# Altium footprint library Aristuino_pins_2.PcbLib: 1 footprints
Each footprint in its own frame and in the unit in brackets; x right, y up, seen from the top. Pads: shape width x height; smd on the part's side, far side on the other; paste and mask are expansions set on the pad; w line width, h text height; cw(c..) or ccw(c..) is an arc to the next point about the centre after c.
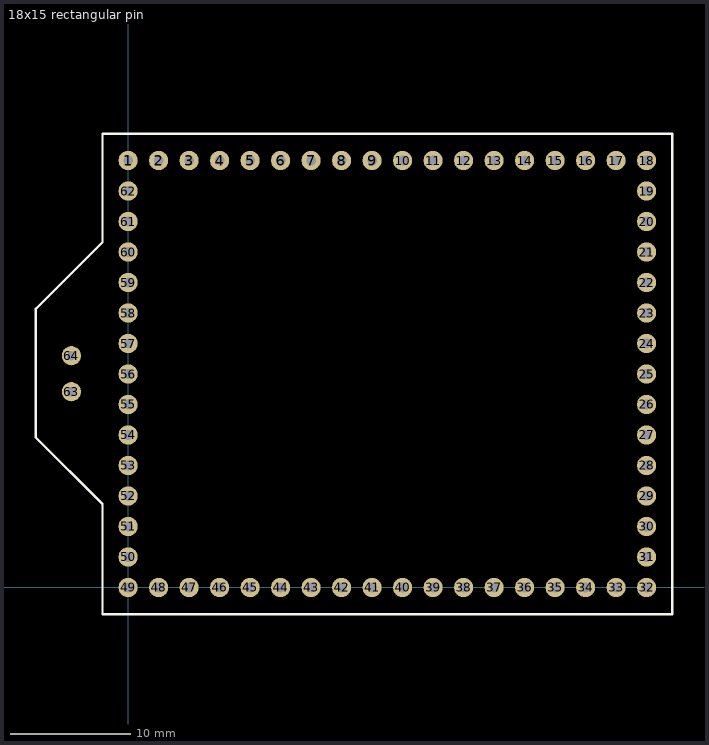
[diagram p0: the footprint, top view; thin cyan lines are the x and y axes]

## 18x15 rectangular pin [mm]
pads (64):
  round 1.6 hole 0.8: 1(0,35.56) 2(2.54,35.56) 3(5.08,35.56) 4(7.62,35.56) 5(10.16,35.56) 6(12.7,35.56) 7(15.24,35.56) 8(17.78,35.56) 9(20.32,35.56) 10(22.86,35.56) 11(25.4,35.56) 12(27.94,35.56) 13(30.48,35.56) 14(33.02,35.56) 15(35.56,35.56) 16(38.1,35.56) 17(40.64,35.56) 18(43.18,35.56) 19(43.18,33.02) 20(43.18,30.48) 21(43.18,27.94) 22(43.18,25.4) 23(43.18,22.86) 24(43.18,20.32) 25(43.18,17.78) 26(43.18,15.24) 27(43.18,12.7) 28(43.18,10.16) 29(43.18,7.62) 30(43.18,5.08) 31(43.18,2.54) 32(43.18,0) 33(40.64,0) 34(38.1,0) 35(35.56,0) 36(33.02,0) 37(30.48,0) 38(27.94,0) 39(25.4,0) 40(22.86,0) 41(20.32,0) 42(17.78,0) 43(15.24,0) 44(12.7,0) 45(10.16,0) 46(7.62,0) 47(5.08,0) 48(2.54,0) 49(0,0) 50(0,2.54) 51(0,5.08) 52(0,7.62) 53(0,10.16) 54(0,12.7) 55(0,15.24) 56(0,17.78) 57(0,20.32) 58(0,22.86) 59(0,25.4) 60(0,27.94) 61(0,30.48) 62(0,33.02) 63(-4.72,16.305) 64(-4.72,19.305)
Top Overlay:
  lines w0.2: -7.685,12.5 -2.135,6.95 -2.135,-2.22 45.315,-2.22 45.315,37.78 -2.135,37.78 -2.135,28.75 -7.685,23.2 -7.685,12.5
3D body "Aristuino.step": height 17.95, standoff 1.48, extent -7.973,-2.159 45.212,37.841